# EAGLE library part CLE-132-01-G-DV (library con-samtec02)
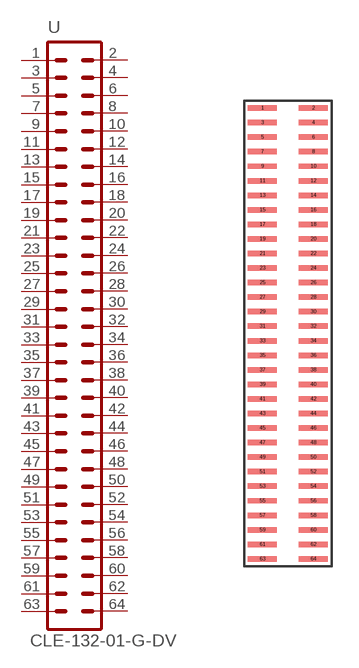
[diagram p31: symbol with the pads of CLE-132-01-G-DV; footprint CLE-132-01-G-DV]

Designator prefix -

## CLE-132-01-G-DV  [CLE-132-01-G-DV]
1  1  pas
2  2  pas
3  3  pas
4  4  pas
5  5  pas
6  6  pas
7  7  pas
8  8  pas
9  9  pas
10  10  pas
11  11  pas
12  12  pas
13  13  pas
14  14  pas
15  15  pas
16  16  pas
17  17  pas
18  18  pas
19  19  pas
20  20  pas
21  21  pas
22  22  pas
23  23  pas
24  24  pas
25  25  pas
26  26  pas
27  27  pas
28  28  pas
29  29  pas
30  30  pas
31  31  pas
32  32  pas
33  33  pas
34  34  pas
35  35  pas
36  36  pas
37  37  pas
38  38  pas
39  39  pas
40  40  pas
41  41  pas
42  42  pas
43  43  pas
44  44  pas
45  45  pas
46  46  pas
47  47  pas
48  48  pas
49  49  pas
50  50  pas
51  51  pas
52  52  pas
53  53  pas
54  54  pas
55  55  pas
56  56  pas
57  57  pas
58  58  pas
59  59  pas
60  60  pas
61  61  pas
62  62  pas
63  63  pas
64  64  pas

## Footprint CLE-132-01-G-DV (pad centres in mm)
smd 1.6 x 0.3: 1 -1.4,12.4; 2 1.4,12.4; 3 -1.4,11.6; 4 1.4,11.6; 5 -1.4,10.8; 6 1.4,10.8; 7 -1.4,10; 8 1.4,10; 9 -1.4,9.2; 10 1.4,9.2; 11 -1.4,8.4; 12 1.4,8.4; 13 -1.4,7.6; 14 1.4,7.6; 15 -1.4,6.8; 16 1.4,6.8; 17 -1.4,6; 18 1.4,6; 19 -1.4,5.2; 20 1.4,5.2; 21 -1.4,4.4; 22 1.4,4.4; 23 -1.4,3.6; 24 1.4,3.6; 25 -1.4,2.8; 26 1.4,2.8; 27 -1.4,2; 28 1.4,2; 29 -1.4,1.2; 30 1.4,1.2; 31 -1.4,0.4; 32 1.4,0.4; 33 -1.4,-0.4; 34 1.4,-0.4; 35 -1.4,-1.2; 36 1.4,-1.2; 37 -1.4,-2; 38 1.4,-2; 39 -1.4,-2.8; 40 1.4,-2.8; 41 -1.4,-3.6; 42 1.4,-3.6; 43 -1.4,-4.4; 44 1.4,-4.4; 45 -1.4,-5.2; 46 1.4,-5.2; 47 -1.4,-6; 48 1.4,-6; 49 -1.4,-6.8; 50 1.4,-6.8; 51 -1.4,-7.6; 52 1.4,-7.6; 53 -1.4,-8.4; 54 1.4,-8.4; 55 -1.4,-9.2; 56 1.4,-9.2; 57 -1.4,-10; 58 1.4,-10; 59 -1.4,-10.8; 60 1.4,-10.8; 61 -1.4,-11.6; 62 1.4,-11.6; 63 -1.4,-12.4; 64 1.4,-12.4